# EAGLE library part XBEE_PRO_S3B (library GTOR - Microcontroller)
XBee-PRO 900HP DigiMesh 900 MHz 200 Kbps RF Module with U.FL Connector
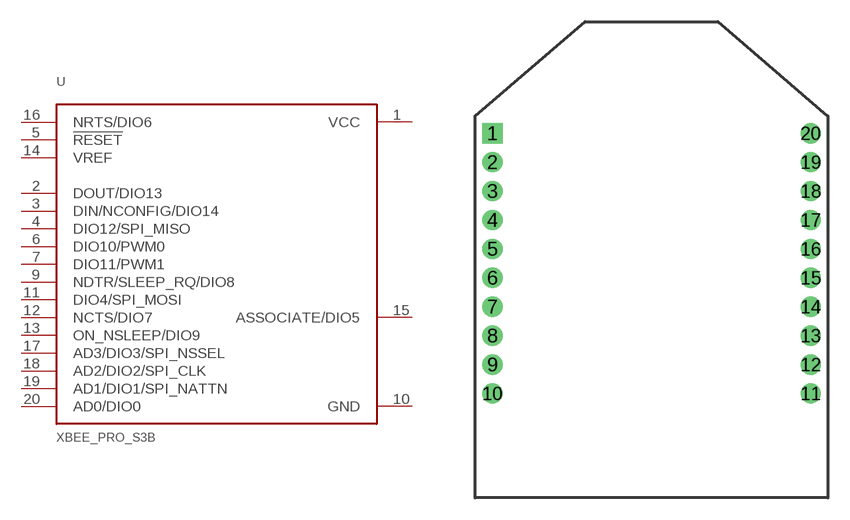
[diagram p6: symbol with the pads of XBEE_PRO_S3B; footprint XBEE_PRO_S3B]

Designator prefix U

## XBEE_PRO_S3B (DESCRIPTION: General ISM < 1GHz Transceiver Module 900MHz Antenna Not Included, RP-SMA Through Hole; DIGI-KEY_PART_NUMBER: 602-1293-ND; MF: Digi International; MP: XBP9B-XCST-001; PACKAGE: Module Digi International)  [XBEE_PRO_S3B]
1  VCC  pwr
2  DOUT/DIO13
3  DIN/NCONFIG/DIO14
4  DIO12/SPI_MISO
5  !RESET  in
6  DIO10/PWM0
7  DIO11/PWM1
9  NDTR/SLEEP_RQ/DIO8
10  GND  pwr
11  DIO4/SPI_MOSI
12  NCTS/DIO7
13  ON_NSLEEP/DIO9
14  VREF  in
15  ASSOCIATE/DIO5  out
16  NRTS/DIO6  in
17  AD3/DIO3/SPI_NSSEL
18  AD2/DIO2/SPI_CLK
19  AD1/DIO1/SPI_NATTN
20  AD0/DIO0

## Footprint XBEE_PRO_S3B (pad centres in mm)
drill 0.8 pad 1.4 square: 1 -11,8.75
drill 0.8 pad 1.4: 2 -11,6.75; 3 -11,4.75; 4 -11,2.75; 5 -11,0.75; 6 -11,-1.25; 7 -11,-3.25; 8 -11,-5.25; 9 -11,-7.25; 10 -11,-9.25; 11 11,-9.25; 12 11,-7.25; 13 11,-5.25; 14 11,-3.25; 15 11,-1.25; 16 11,0.75; 17 11,2.75; 18 11,4.75; 19 11,6.75; 20 11,8.75